# Altium footprint library FGC12864B.PcbLib: 1 footprints
Each footprint in its own frame and in the unit in brackets; x right, y up, seen from the top. Pads: shape width x height; smd on the part's side, far side on the other; paste and mask are expansions set on the pad; w line width, h text height; cw(c..) or ccw(c..) is an arc to the next point about the centre after c.
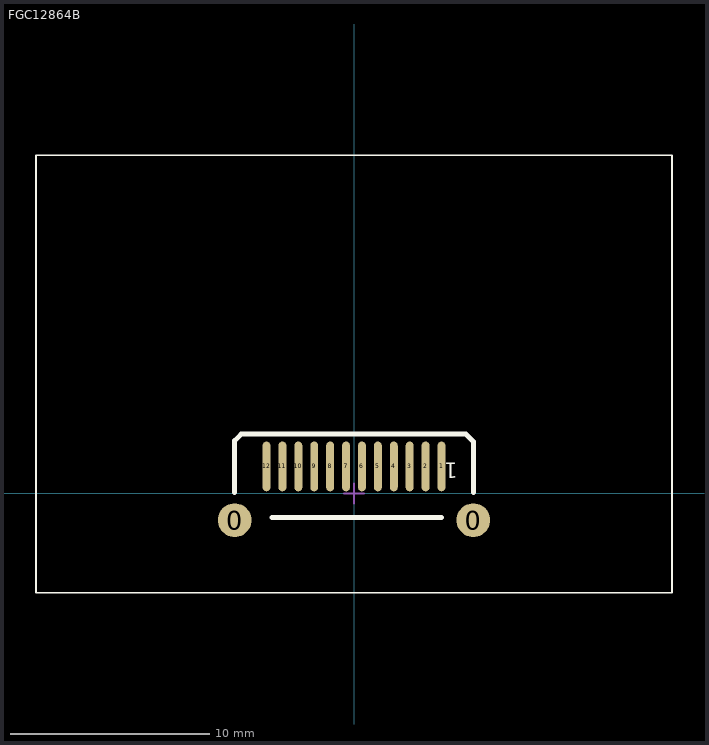
[diagram p0: the footprint, top view; thin cyan lines are the x and y axes]

## FGC12864B [mm] "FGC128X64液晶，22mm*32mm*1.8mm"
height 1.8
pads (14):
  round 1.7 smd: 0(-6,-1.35) 0(6,-1.35)
  oval 0.4x2.5 smd: 1(4.4,1.35) 2(3.6,1.35) 3(2.8,1.35) 4(2,1.35) 5(1.2,1.35) 6(0.4,1.35) 7(-0.4,1.35) 8(-1.2,1.35) 9(-2,1.35) 10(-2.8,1.35) 11(-3.6,1.35) 12(-4.4,1.35)
Top Overlay:
  lines w0.1: -16,-5 16,-5 16,17 -16,17 -16,-5
  lines w0.254: -6,0.033 -6,1.528 -6,2.646 -5.67,2.976 5.633,2.976 6,2.609 6,1.314 6,0.033 ; -4.121,-1.215 4.4,-1.215
  text "1" at 5.227,1.528 h0.76
Mechanical 15:
  lines w0.1: -0.5,0 0.5,0 ; 0,-0.5 0,0.5
3D body: height 1.8, standoff 0, extent -16,-5 16,17